# Altium schematic symbol library CI de interfaz USB.SchLib: 2 symbols
Pins are listed as number, name and electrical type; pins without a type are passive.

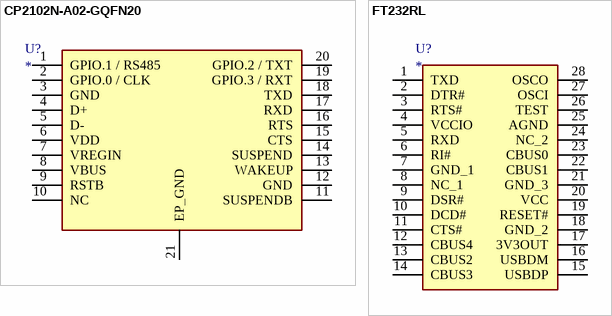
[diagram p0: symbols CP2102N-A02-GQFN20 to FT232RL]

## CP2102N-A02-GQFN20
designator U?
Datasheet: https://www.mouser.es/datasheet/2/368/cp2102n_datasheet-1634912.pdf
footprint CP2102NA02GQFN20
pins: 1 GPIO.1 / RS485, 2 GPIO.0 / CLK, 3 GND, 4 D+, 5 D-, 6 VDD, 7 VREGIN, 8 VBUS, 9 RSTB, 10 NC, 11 SUSPENDB, 12 GND, 13 WAKEUP, 14 SUSPEND, 15 CTS, 16 RTS, 17 RXD, 18 TXD, 19 GPIO.3 / RXT, 20 GPIO.2 / TXT, 21 EP_GND

## FT232RL
designator U?
datasheet: https://www.mouser.es/datasheet/2/163/DS_FT232R-11534.pdf
footprint SOP65P778X200-28N
pins: 1 TXD, 2 DTR#, 3 RTS#, 4 VCCIO, 5 RXD, 6 RI#, 7 GND_1, 8 NC_1, 9 DSR#, 10 DCD#, 11 CTS#, 12 CBUS4, 13 CBUS2, 14 CBUS3, 15 USBDP, 16 USBDM, 17 3V3OUT, 18 GND_2, 19 RESET#, 20 VCC, 21 GND_3, 22 CBUS1, 23 CBUS0, 24 NC_2, 25 AGND, 26 TEST, 27 OSCI, 28 OSCO